# Altium footprint library SEC_3002_DZ&HL.PcbLib: 65 footprints (part 1 of 5)
Each footprint in its own frame and in the unit in brackets; x right, y up, seen from the top. Pads: shape width x height; smd on the part's side, far side on the other; paste and mask are expansions set on the pad; w line width, h text height; cw(c..) or ccw(c..) is an arc to the next point about the centre after c.
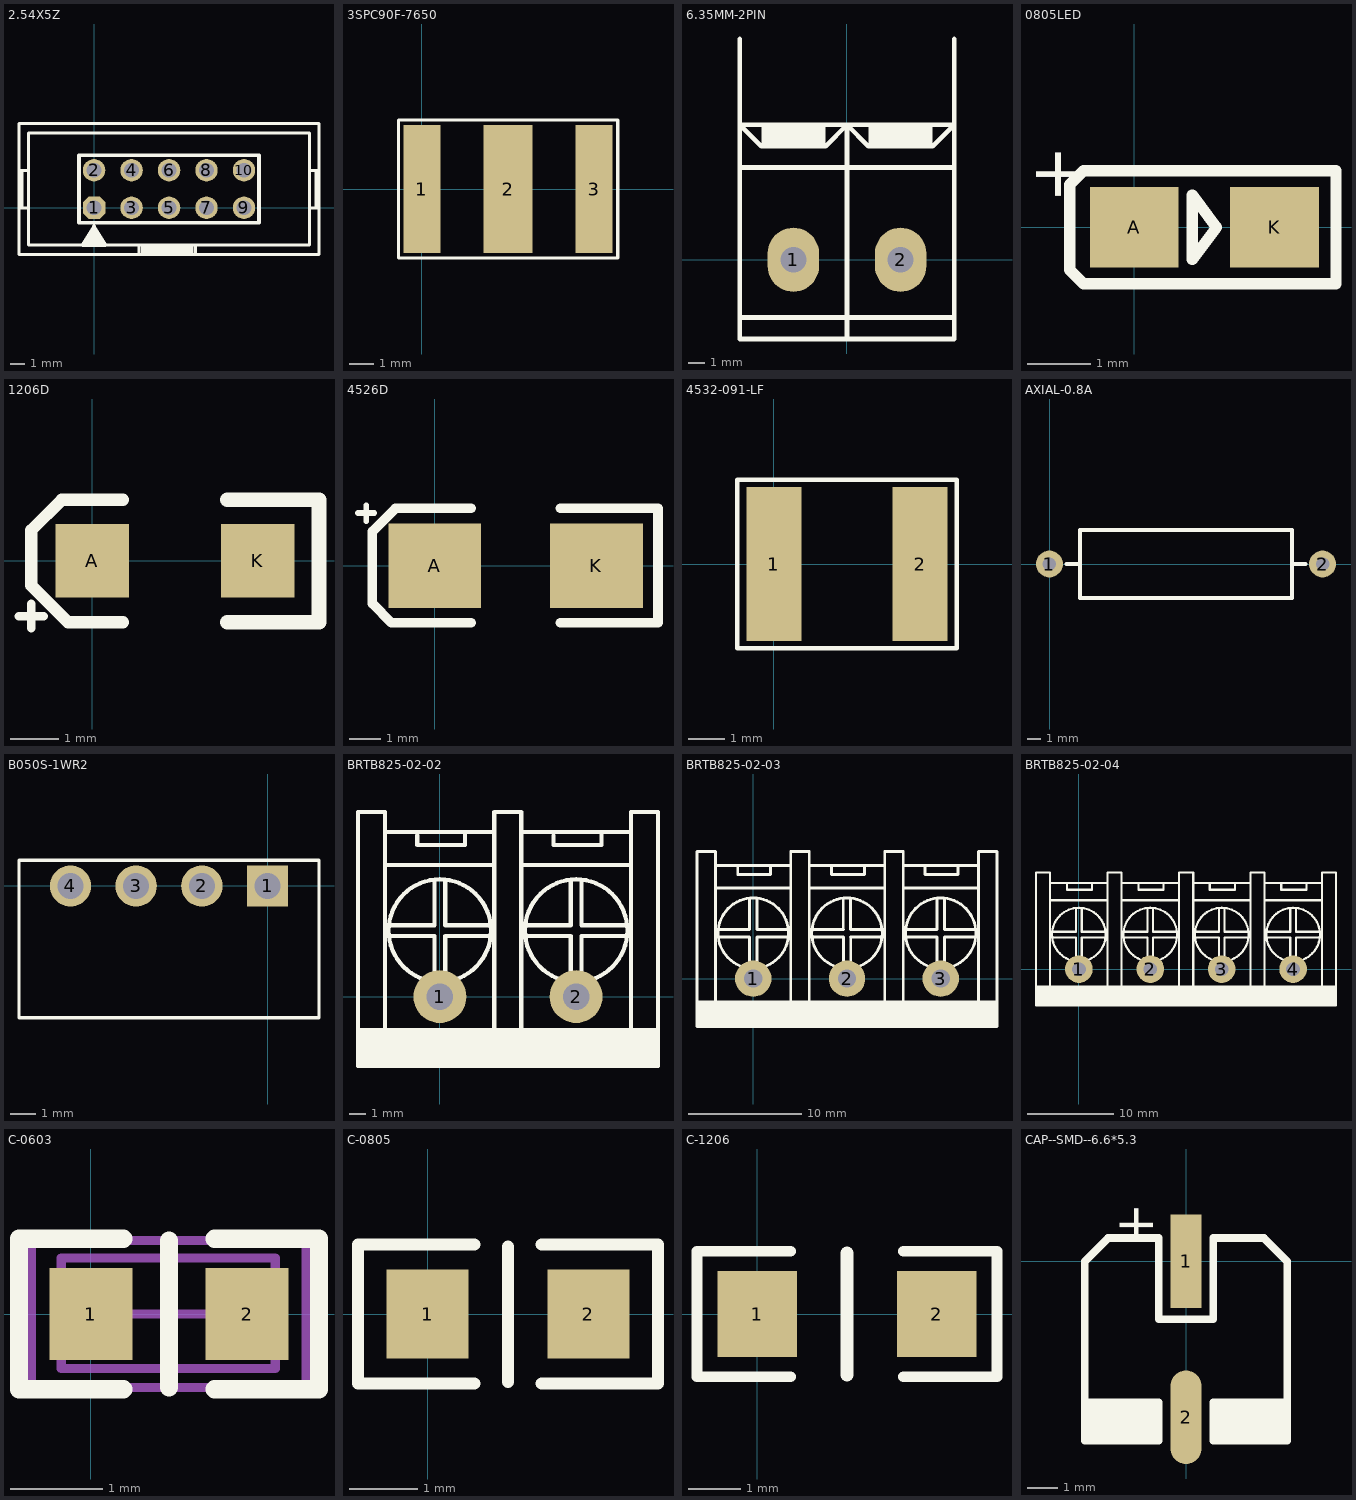
[diagram p0: the footprints below, top view; thin cyan lines are the x and y axes]

## 2.54X5Z [mil]
pads (10):
  oct 60x60 hole 39.37: 1(0,0)
  round 60 hole 39.37: 2(0,100) 3(100,0) 4(100,100) 5(200,0) 6(200,100) 7(300,0) 8(300,100) 9(400,0) 10(400,100)
Top Overlay:
  rectangle: 125,-125 265,-100
  lines w8: -200,0 -175,0 ; -200,100 -175,100 ; -191.67,0 -191.67,100 ; -25,-100 0,-50 25,-100 ; 120,-125 120,-100 ; 270,-125 270,-100 ; 525,-100 575,-100 ; 575,0 600,0 ; 575,100 600,100 ; 591.67,0 591.67,100 ; 575,-100 575,200 -175,200 -175,-100 575,-100 ; -200,-125 600,-125 600,225 -200,225 -200,-125
  lines w10: 17.25,-97.25 -17.25,-97.25 -20,-100 ; -20,-100 0,-80 ; -20,-100 20,-100 0,-80 ; 0,-80 0,-60 0,-70 ; 0,-80 0,-70 ; 0,-70 20,-90 -10,-90 -10,-80 0,-70 ; -40,-40 -40,140 440,140 440,-40 -40,-40 ; -30,-100 -25,-100 30,-100 0,-50 -30,-100

## 3SPC90F-7650 [mm]
pads (3):
  rect 1.5x5.2 smd: 1(0,0) 3(7,0)
  rect 2x5.2 smd: 2(3.5,0)
Top Overlay:
  lines w0.127: -0.947,-2.8 -0.947,2.8 7.963,2.8 7.963,-2.8 -0.947,-2.8

## 6.35MM-2PIN [mil]
pads (2):
  oval 120x150 hole 60: 1(-125,0) 2(125,0)
Top Overlay:
  rectangle: -200,265.15 -50,315.15
  rectangle: 50,265.14 200,315.14
  lines w11: -250,-135 250,-135 ; -250,215 250,215 ; -250,515 -250,315 ; 0,-185 0,315 ; 250,515 250,315 ; -250,315 250,315 ; -250,315 -250,-185 250,-185 250,315 ; -250,315 -200,265 -50,265 0,315 ; 0,315 50,265 200,265 250,315

## 0805LED [mm]
pads (2):
  rect 1.4x1.27 smd: A(0,0) K(2.21,0)
Top Overlay:
  lines w0.178: 3.011,0.889 3.175,0.889 ; 3.175,0.889 3.175,-0.889 -0.8,-0.889 -1.016,-0.673 -1.016,0.673 -0.8,0.889 3.175,0.889 ; 0.914,-0.508 1.295,0 0.914,0.508 0.914,-0.508
  text "+" at -1.546,1.294 h0.8

## 1206D [mil]
pads (2):
  rect 60x60 smd: A(0,0) K(135,0)
Top Overlay:
  lines w7: -60,-45 -40,-45 ; -50,-55 -50,-35
  lines w10: 25,-50 -20,-50 -50,-20 -50,25 -25,50 25,50
  lines w12: 110,-50 185,-50 185,50 110,50

## 4526D [mil]
pads (2):
  rect 115x105 smd: A(0,0) K(200,0)
Top Overlay:
  lines w7: -95,65.39 -75,65.39 ; -85,55 -85,75
  lines w12: 44.84,-70.48 -53.65,-70.48 -77.28,-46.86 -77.28,42.72 -48.75,71.25 44.84,71.25 ; 155.2,-70.48 276.31,-70.48 276.31,71.25 155.2,71.25

## 4532-091-LF [mm]
height 1.35
pads (2):
  rect 1.5x4.2 smd: 1(0,0) 2(4,0)
Top Overlay:
  lines w0.127: -1,-2.3 5,-2.3 5,2.3 -1,2.3 -1,-2.3

## AXIAL-0.8A [mm]
pads (2):
  round 2 hole 1: 1(-0.009,0.01) 2(20.311,0.01)
Top Overlay:
  lines w0.305: 1.261,0.01 2.277,0.01 ; 18.025,0.01 19.041,0.01 ; 2.277,-2.53 18.025,-2.53 18.025,2.55 2.277,2.55 2.277,-2.53

## B050S-1WR2 [mm]
pads (4):
  rect 1.6x1.6 hole 1: 1(0,0)
  round 1.6 hole 1: 2(-2.54,0) 3(-5.08,0) 4(-7.62,0)
Top Overlay:
  lines w0.127: -9.61,-5.1 -9.61,1 1.99,1 1.99,-5.1 -9.61,-5.1

## BRTB825-02-02 [mm]
pads (2):
  round 3.2 hole 1.6: 1(0,0) 2(8.25,0)
Top Overlay:
  circle w0.254: c8.25,4 r3.1
  circle w0.254: c0,4 r3.1
  rectangle: -4.953,-4.2 13.203,-1.905
  lines w0.254: -3.325,-4.2 3.325,-4.2 ; -3.325,-2.1 3.3,-2.1 ; -3.302,7.972 3.277,7.972 ; -3.302,9.972 3.277,9.972 ; -3.01,3.675 -0.325,3.675 ; -2.99,4.325 -0.325,4.325 -0.325,7.01 ; -1.37,9.772 -1.37,9.172 1.53,9.172 ; -0.325,1.01 -0.325,3.675 ; 0.325,0.99 0.325,3.675 2.99,3.675 ; 0.325,6.99 0.325,4.325 3.01,4.325 ; 1.53,9.272 1.53,9.972 ; 4.925,-4.2 11.575,-4.2 ; 4.925,-2.1 11.55,-2.1 ; 4.948,7.972 11.527,7.972 ; 4.948,9.972 11.527,9.972 ; 5.24,3.675 7.925,3.675 ; 5.26,4.325 7.925,4.325 7.925,7.01 ; 6.88,9.772 6.88,9.172 9.78,9.172 ; 7.925,1.01 7.925,3.675 ; 8.575,0.99 8.575,3.675 11.24,3.675 ; 8.575,6.99 8.575,4.325 11.26,4.325 ; 9.78,9.272 9.78,9.972 ; -4.953,-4.2 -3.327,-4.2 -3.327,11.176 -4.953,11.176 -4.953,-4.2 ; 3.297,-4.2 3.297,11.176 4.923,11.176 4.923,-4.2 3.297,-4.2 ; 11.577,-4.2 13.203,-4.2 13.203,11.176 11.577,11.176 11.577,-4.2

## BRTB825-02-03 [mm]
pads (3):
  round 3.2 hole 1.6: 1(0,0) 2(8.25,0) 3(16.5,0)
Top Overlay:
  circle w0.254: c8.25,4 r3.1
  circle w0.254: c0,4 r3.1
  circle w0.254: c16.5,4 r3.1
  rectangle: -4.953,-4.2 21.453,-1.905
  lines w0.254: -3.325,-4.2 3.325,-4.2 ; -3.325,-2.1 3.3,-2.1 ; -3.302,7.972 3.277,7.972 ; -3.302,9.972 3.277,9.972 ; -3.01,3.675 -0.325,3.675 ; -2.99,4.325 -0.325,4.325 -0.325,7.01 ; -1.37,9.772 -1.37,9.172 1.53,9.172 ; -0.325,1.01 -0.325,3.675 ; 0.325,0.99 0.325,3.675 2.99,3.675 ; 0.325,6.99 0.325,4.325 3.01,4.325 ; 1.53,9.272 1.53,9.972 ; 4.925,-4.2 11.575,-4.2 ; 4.925,-2.1 11.55,-2.1 ; 4.948,7.972 11.527,7.972 ; 4.948,9.972 11.527,9.972 ; 5.24,3.675 7.925,3.675 ; 5.26,4.325 7.925,4.325 7.925,7.01 ; 6.88,9.772 6.88,9.172 9.78,9.172 ; 7.925,1.01 7.925,3.675 ; 8.575,0.99 8.575,3.675 11.24,3.675 ; 8.575,6.99 8.575,4.325 11.26,4.325 ; 9.78,9.272 9.78,9.972 ; 13.175,-4.2 19.825,-4.2 ; 13.175,-2.1 19.8,-2.1 ; 13.198,7.972 19.777,7.972 ; 13.198,9.972 19.777,9.972 ; 13.49,3.675 16.175,3.675 ; 13.51,4.325 16.175,4.325 16.175,7.01 ; 15.13,9.772 15.13,9.172 18.03,9.172 ; 16.175,1.01 16.175,3.675 ; 16.825,0.99 16.825,3.675 19.49,3.675 ; 16.825,6.99 16.825,4.325 19.51,4.325 ; 18.03,9.272 18.03,9.972 ; -4.953,-4.2 -3.327,-4.2 -3.327,11.176 -4.953,11.176 -4.953,-4.2 ; 3.297,-4.2 3.297,11.176 4.923,11.176 4.923,-4.2 3.297,-4.2 ; 11.577,-4.2 13.203,-4.2 13.203,11.176 11.577,11.176 11.577,-4.2 ; 19.827,-4.2 19.827,11.176 21.453,11.176 21.453,-4.2 19.827,-4.2

## BRTB825-02-04 [mm]
pads (4):
  round 3.2 hole 1.6: 1(0,0) 2(8.25,0) 3(16.5,0) 4(24.75,0)
Top Overlay:
  circle w0.254: c16.5,4 r3.1
  circle w0.254: c0,4 r3.1
  circle w0.254: c8.25,4 r3.1
  circle w0.254: c24.75,4 r3.1
  rectangle: -4.953,-4.2 29.703,-1.905
  lines w0.254: -3.325,-4.2 3.325,-4.2 ; -3.325,-2.1 3.3,-2.1 ; -3.302,7.972 3.277,7.972 ; -3.302,9.972 3.277,9.972 ; -3.01,3.675 -0.325,3.675 ; -2.99,4.325 -0.325,4.325 -0.325,7.01 ; -1.37,9.772 -1.37,9.172 1.53,9.172 ; -0.325,1.01 -0.325,3.675 ; 0.325,0.99 0.325,3.675 2.99,3.675 ; 0.325,6.99 0.325,4.325 3.01,4.325 ; 1.53,9.272 1.53,9.972 ; 4.925,-4.2 11.575,-4.2 ; 4.925,-2.1 11.55,-2.1 ; 4.948,7.972 11.527,7.972 ; 4.948,9.972 11.527,9.972 ; 5.24,3.675 7.925,3.675 ; 5.26,4.325 7.925,4.325 7.925,7.01 ; 6.88,9.772 6.88,9.172 9.78,9.172 ; 7.925,1.01 7.925,3.675 ; 8.575,0.99 8.575,3.675 11.24,3.675 ; 8.575,6.99 8.575,4.325 11.26,4.325 ; 9.78,9.272 9.78,9.972 ; 13.175,-4.2 19.825,-4.2 ; 13.175,-2.1 19.8,-2.1 ; 13.198,7.972 19.777,7.972 ; 13.198,9.972 19.777,9.972 ; 13.49,3.675 16.175,3.675 ; 13.51,4.325 16.175,4.325 16.175,7.01 ; 15.13,9.772 15.13,9.172 18.03,9.172 ; 16.175,1.01 16.175,3.675 ; 16.825,0.99 16.825,3.675 19.49,3.675 ; 16.825,6.99 16.825,4.325 19.51,4.325 ; 18.03,9.272 18.03,9.972 ; 21.425,-4.2 28.075,-4.2 ; 21.425,-2.1 28.05,-2.1 ; 21.448,7.972 28.027,7.972 ; 21.448,9.972 28.027,9.972 ; 21.74,3.675 24.425,3.675 ; 21.76,4.325 24.425,4.325 24.425,7.01 ; 23.38,9.772 23.38,9.172 26.28,9.172 ; 24.425,1.01 24.425,3.675 ; 25.075,0.99 25.075,3.675 27.74,3.675 ; 25.075,6.99 25.075,4.325 27.76,4.325 ; 26.28,9.272 26.28,9.972 ; -4.953,-4.2 -4.953,11.176 -3.327,11.176 -3.327,-4.2 -4.953,-4.2 ; 3.297,-4.2 4.923,-4.2 4.923,11.176 3.297,11.176 3.297,-4.2 ; 11.577,-4.2 11.577,11.176 13.203,11.176 13.203,-4.2 11.577,-4.2 ; 19.827,-4.2 21.453,-4.2 21.453,11.176 19.827,11.176 19.827,-4.2 ; 28.077,-4.2 28.077,11.176 29.703,11.176 29.703,-4.2 28.077,-4.2

## C-0603 [mm]
pads (2):
  rect 0.9x1 smd: 1(0,0) 2(1.7,0)
Top Overlay:
  lines w0.2: 0.35,-0.82 -0.784,-0.82 -0.784,0.82 0.35,0.82 ; 0.85,-0.8 0.85,0.8 ; 1.35,-0.82 2.484,-0.82 2.484,0.82 1.35,0.82
Mechanical 13:
  lines w0.1: -0.322,-0.593 2.007,-0.593 2.007,0.611 -0.322,0.611 -0.322,-0.593
Mechanical 15:
  lines w0.1: 0.35,0 1.35,0 ; 0.85,-0.5 0.85,0.5 ; -0.65,-0.8 2.342,-0.8 2.342,0.8 -0.65,0.8 -0.65,-0.8
3D body: height 1.4, standoff 0, extent -0.325,-0.611 2.028,0.625

## C-0805 [mm]
pads (2):
  rect 1.2x1.3 smd: 1(0,0) 2(2.36,0)
Top Overlay:
  lines w0.178: -1.02,1 -1.02,-1.017 0.685,-1.017 ; -1.02,1.017 0.685,1.017 ; 1.18,-1 1.18,0.99 ; 1.675,-1.017 3.38,-1.017 ; 1.675,1.017 3.38,1.017 3.38,-1

## C-1206 [mil]
pads (2):
  rect 60x64.96 smd: 1(0,0) 2(135,0)
Top Overlay:
  lines w8: 25,-47.24 -45.24,-47.24 -45.24,47.24 25,47.24 ; 110,-47.24 180.24,-47.24 180.24,47.24 110,47.24
  lines w10: 67.5,-45.67 67.5,45.67

## CAP--SMD--6.6*5.3 [mil] "贴"
height 53.15
pads (2):
  rect 40x120 smd: 1(0,0)
  oval 40x120 smd: 2(0,-200)
Top Overlay:
  region: -131.32,-181.09 -131.32,-229.87 -36.32,-229.87 -36.32,-181.09
  region: 33.68,-181.09 33.68,-229.87 128.68,-229.87 128.68,-181.09
  lines w10: -130,-203 -130,-181.18 -129.92,-181.1 -35,-181.1 -35,-230 -130,-230 -130,-0.08 -99.92,30 -35,30 -35,-74.37 35,-74.37 35,30 99.92,30 130,-0.08 130,-230 35,-230 35,-181.1 130,-181.1
  text "+" at -85,75 h50